# Altium schematic symbol library resistor-shunt.SCHLIB: 13 symbols
Pins are listed as number, name and electrical type; pins without a type are passive.

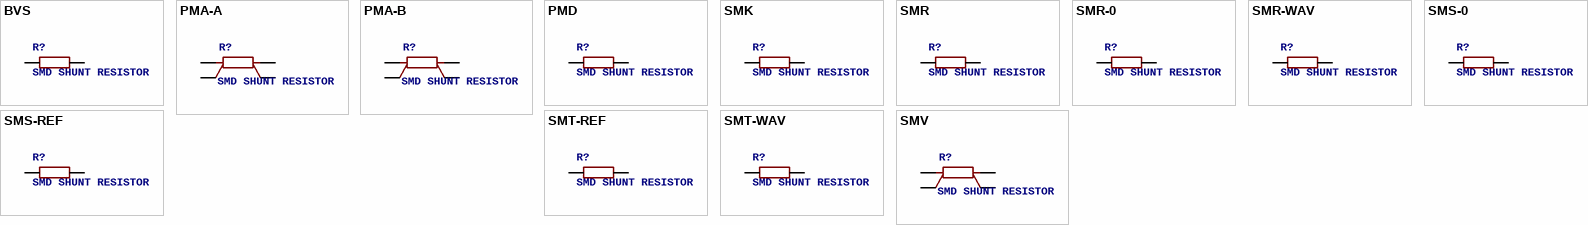
[diagram p0: symbols BVS to SMV]

## BVS
designator R?, comment SMD SHUNT RESISTOR
OC_FARNELL: unknown; OC_NEWARK: unknown
footprint BVS
pins: 1, 2

## PMA-A
designator R?, comment SMD SHUNT RESISTOR
OC_FARNELL: unknown; OC_NEWARK: unknown
footprint PMA-A
pins: A, B, SA, SB

## PMA-B
designator R?, comment SMD SHUNT RESISTOR
OC_FARNELL: unknown; OC_NEWARK: unknown
footprint PMA-B
pins: A, B, SA, SB

## PMD
designator R?, comment SMD SHUNT RESISTOR
OC_FARNELL: unknown; OC_NEWARK: unknown
footprint PMD
pins: 1, 2

## SMK
designator R?, comment SMD SHUNT RESISTOR
OC_FARNELL: unknown; OC_NEWARK: unknown
footprint SMK
pins: 1, 2

## SMR
designator R?, comment SMD SHUNT RESISTOR
OC_FARNELL: unknown; OC_NEWARK: unknown
footprint SMR
pins: 1, 2

## SMR-0
designator R?, comment SMD SHUNT RESISTOR
OC_FARNELL: unknown; OC_NEWARK: unknown
footprint SMR-0
pins: 1, 2

## SMR-WAV
designator R?, comment SMD SHUNT RESISTOR
OC_FARNELL: unknown; OC_NEWARK: unknown
footprint SMS-WAV
pins: 1, 2

## SMS-0
designator R?, comment SMD SHUNT RESISTOR
OC_FARNELL: unknown; OC_NEWARK: unknown
footprint SMS-0
pins: 1, 2

## SMS-REF
designator R?, comment SMD SHUNT RESISTOR
OC_FARNELL: unknown; OC_NEWARK: unknown
footprint SMS-REF
pins: 1, 2

## SMT-REF
designator R?, comment SMD SHUNT RESISTOR
OC_FARNELL: unknown; OC_NEWARK: unknown
footprint SMT-REF
pins: 1, 2

## SMT-WAV
designator R?, comment SMD SHUNT RESISTOR
OC_FARNELL: unknown; OC_NEWARK: unknown
footprint SMT-WAV
pins: 1, 2

## SMV
designator R?, comment SMD SHUNT RESISTOR
OC_FARNELL: unknown; OC_NEWARK: unknown
footprint SMV
pins: I1 A, I2 B, U1 SA, U2 SB